# Altium footprint library nRF24LE1F16Q24.PcbLib: 14 footprints
Each footprint in its own frame and in the unit in brackets; x right, y up, seen from the top. Pads: shape width x height; smd on the part's side, far side on the other; paste and mask are expansions set on the pad; w line width, h text height; cw(c..) or ccw(c..) is an arc to the next point about the centre after c.
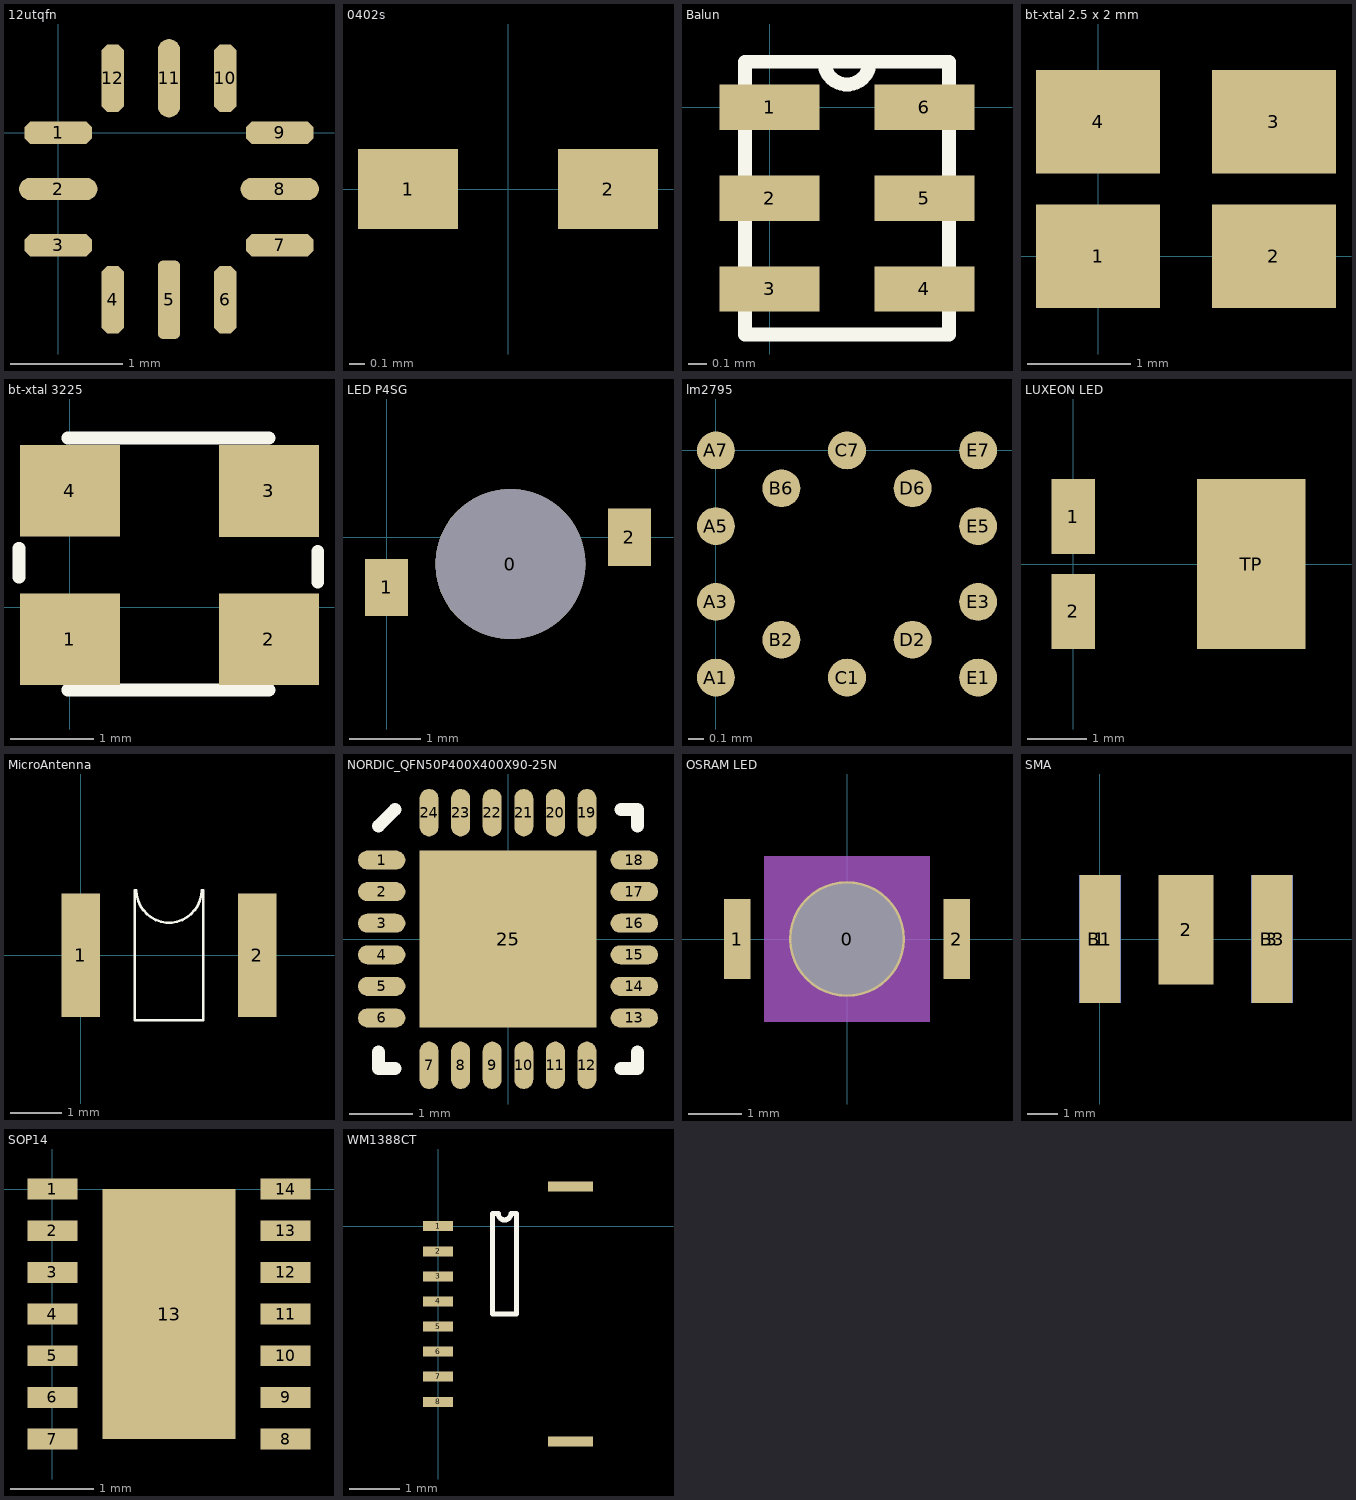
[diagram p0: the footprints below, top view; thin cyan lines are the x and y axes]

## 12utqfn [mm]
pads (12):
  oct 0.6x0.2 smd: 1(0,0) 3(0,-1) 7(1.975,-1) 9(1.975,0)
  oval 0.7x0.2 smd: 2(0,-0.5) 8(1.975,-0.5)
  oct 0.2x0.6 smd: 4(0.487,-1.487) 6(1.487,-1.487) 10(1.487,0.487) 12(0.487,0.487)
  rrect50% 0.2x0.7 smd: 5(0.987,-1.487)
  oval 0.2x0.7 smd: 11(0.987,0.487)

## 0402s [mil]
height 19.68
pads (2):
  rect 25x20 smd: 1(-25,0) 2(25,0)

## Balun [mm]
pads (6):
  rect 0.55x0.25 smd: 1(0,0) 2(0,-0.5) 3(0,-1) 4(0.85,-1) 5(0.85,-0.5) 6(0.85,0)
Top Overlay:
  lines w0.076: -0.136,-1.25 -0.136,0.25 0.55,0.25 cw(c0.425,0.25) 0.3,0.25 0.986,0.25 0.986,-1.25 -0.136,-1.25

## bt-xtal 2.5 x 2 mm [mm] "Mercury X32 series"
pads (4):
  rect 1.2x1 smd: 1(0,0) 2(1.7,0) 3(1.7,1.3) 4(0,1.3)

## bt-xtal 3225 [mm] "Mercury X32 series"
pads (4):
  rect 1.2x1.1 smd: 1(0,-0.381) 2(2.388,-0.381) 3(2.388,1.397) 4(0,1.4)
Top Overlay:
  lines w0.152: -0.61,0.361 -0.61,0.711 ; -0.025,-0.991 2.388,-0.991 ; -0.025,2.032 2.388,2.032 ; 2.972,0.305 2.972,0.675

## LED P4SG [mm]
pads (3):
  round 2.1 hole 2.1: 0(1.732,-0.375)
  rect 0.6x0.8 smd: 1(0,-0.702) 2(3.4,0)

## lm2795 [mm]
pads (14):
  round 0.25 smd: A1(0,-1.5) A3(0,-1) A5(0,-0.5) A7(0,0) B2(0.433,-1.25) B6(0.433,-0.25) C1(0.866,-1.5) C7(0.866,0) D2(1.299,-1.25) D6(1.299,-0.25) E1(1.732,-1.5) E3(1.732,-1) E5(1.732,-0.5) E7(1.732,0)

## LUXEON LED [mm] "Luxeon LED"
pads (3):
  rect 0.73x1.26 smd: 1(0,0.8) 2(0,-0.8)
  rect 1.83x2.86 smd: TP(3,0)

## MicroAntenna [mm]
pads (2):
  rect 0.75x2.4 smd: 1(0,0) 2(3.45,0)
Top Overlay:
  lines w0.051: 1.061,-1.27 2.389,-1.27 2.389,1.27 2.36,1.27 cw(c1.725,1.27) 1.09,1.27 1.061,1.27 1.061,-1.27

## NORDIC_QFN50P400X400X90-25N [mm] "QFN24 4x4x0.85mm, 0.5mm pitch - Medium Density"
height 0.85
pads (25):
  oval 0.75x0.3 smd: 1(-2,1.25) 2(-2,0.75) 3(-2,0.25) 4(-2,-0.25) 5(-2,-0.75) 6(-2,-1.25) 13(2,-1.25) 14(2,-0.75) 15(2,-0.25) 16(2,0.25) 17(2,0.75) 18(2,1.25)
  oval 0.3x0.75 smd: 7(-1.25,-2) 8(-0.75,-2) 9(-0.25,-2) 10(0.25,-2) 11(0.75,-2) 12(1.25,-2) 19(1.25,2) 20(0.75,2) 21(0.25,2) 22(-0.25,2) 23(-0.75,2) 24(-1.25,2)
  rect 2.8x2.8 smd: 25(0,0)
Top Overlay:
  lines w0.2: -2.05,-1.79 -2.05,-2.05 -1.79,-2.05 ; -2.05,1.79 -1.79,2.05 ; 1.79,-2.05 2.05,-2.05 2.05,-1.79 ; 1.79,2.05 2.05,2.05 2.05,1.79

## OSRAM LED [mm]
pads (3):
  round 2.167 hole 2.067: 0(0,0)
  rect 0.5x1.5 smd: 1(-2.05,0) 2(2.05,0)
Mechanical 1:
  rectangle: -1.55,-1.55 1.55,1.55

## SMA [mm]
pads (5):
  rect 1.35x4.2 smd: 1(0,0) 3(5.65,0)
  rect 1.8x3.6 smd: 2(2.825,0.3)
  rect 1.35x4.2 smd far side: B1(0,0) B3(5.65,0)

## SOP14 [mm]
pads (15):
  rect 0.6x0.25 smd: 1(0,0) 2(0,-0.5) 3(0,-1) 4(0,-1.5) 5(0,-2) 6(0,-2.5) 7(0,-3) 8(2.8,-3) 9(2.8,-2.5) 10(2.8,-2) 11(2.8,-1.5) 12(2.8,-1) 13(2.8,-0.5) 14(2.8,0)
  rect 1.6x3 smd: 13(1.4,-1.5)

## WM1388CT [mm]
pads (10):
  rect 0.6x0.2 smd: 1(0,0) 2(0,-0.5) 3(0,-1) 4(0,-1.5) 5(0,-2) 6(0,-2.5) 7(0,-3) 8(0,-3.5)
  rect 0.9x0.2 smd: ""(2.635,-4.29) ""(2.635,0.79)
Top Overlay:
  lines w0.1: 1.085,-1.75 1.085,0.25 1.2,0.25 ccw(c1.325,0.25) 1.45,0.25 1.565,0.25 1.565,-1.75 1.085,-1.75